# Altium schematic symbol library SNES TST Adapter.SCHLIB: 3 symbols
Pins are listed as number, name and electrical type; pins without a type are passive.

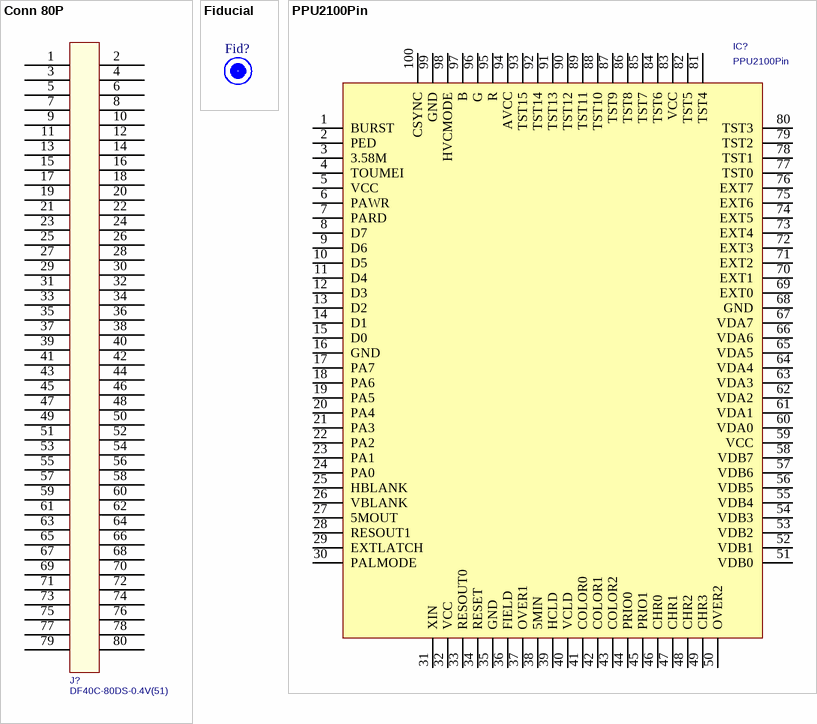
[diagram p0: symbols Conn 80P to PPU2100Pin]

## Conn 80P
designator J?, comment Manufacturer_Part_Number: DF40C-80DS-0.4V(51)  (hidden comment: 80Pole Connector)
Vendor: Hirose Connector; System: Connector
footprint DF40C-80DS
footprint DF40C-80DP
pins: 1, 2, 3, 4, 5, 6, 7, 8, 9, 10, 11, 12, 13, 14, 15, 16, 17, 18, 19, 20, 21, 22, 23, 24, 25, 26, 27, 28, 29, 30, 31, 32, 33, 34, 35, 36, 37, 38, 39, 40, 41, 42, 43, 44, 45, 46, 47, 48, 49, 50, 51, 52, 53, 54, 55, 56, 57, 58, 59, 60, 61, 62, 63, 64, 65, 66, 67, 68, 69, 70, 71, 72, 73, 74, 75, 76, 77, 78, 79, 80

## Fiducial
designator Fid?  (value not drawn)
footprint Fiducial_1_side

## PPU2100Pin
designator IC?
PPU2
footprint PPU100Pin
footprint PPU100Pin_Bottom_TOP_View
footprint PPU100Pin_Double
pins: 1 BURST, 2 PED, 3 3.58M, 4 TOUMEI, 5 VCC, 6 PAWR, 7 PARD, 8 D7, 9 D6, 10 D5, 11 D4, 12 D3, 13 D2, 14 D1, 15 D0, 16 GND, 17 PA7, 18 PA6, 19 PA5, 20 PA4, 21 PA3, 22 PA2, 23 PA1, 24 PA0, 25 HBLANK, 26 VBLANK, 27 5MOUT, 28 RESOUT1, 29 EXTLATCH, 30 PALMODE, 31 XIN, 32 VCC, 33 RESOUT0, 34 RESET, 35 GND, 36 FIELD, 37 OVER1, 38 5MIN, 39 HCLD, 40 VCLD, 41 COLOR0, 42 COLOR1, 43 COLOR2, 44 PRIO0, 45 PRIO1, 46 CHR0, 47 CHR1, 48 CHR2, 49 CHR3, 50 OVER2, 51 VDB0, 52 VDB1, 53 VDB2, 54 VDB3, 55 VDB4, 56 VDB5, 57 VDB6, 58 VDB7, 59 VCC, 60 VDA0, 61 VDA1, 62 VDA2, 63 VDA3, 64 VDA4, 65 VDA5, 66 VDA6, 67 VDA7, 68 GND, 69 EXT0, 70 EXT1, 71 EXT2, 72 EXT3, 73 EXT4, 74 EXT5, 75 EXT6, 76 EXT7, 77 TST0, 78 TST1, 79 TST2, 80 TST3, 81 TST4, 82 TST5, 83 VCC, 84 TST6, 85 TST7, 86 TST8, 87 TST9, 88 TST10, 89 TST11, 90 TST12, 91 TST13, 92 TST14, 93 TST15, 94 AVCC, 95 R, 96 G, 97 B, 98 HVCMODE, 99 GND, 100 CSYNC